# Altium schematic symbol library DS3231.SchLib: 1 symbol
Pins are listed as number, name and electrical type; pins without a type are passive.

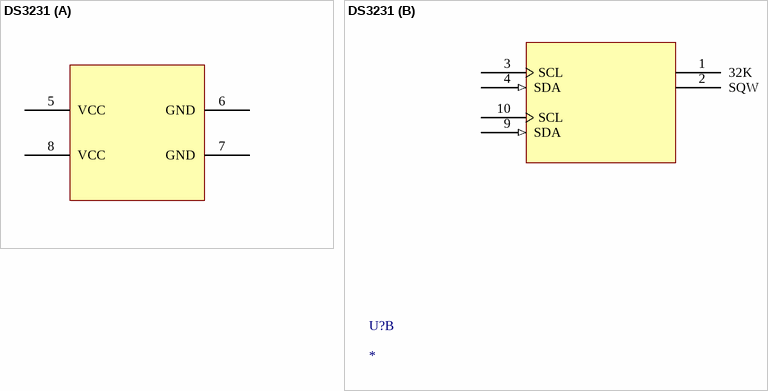
[diagram p0: symbol DS3231]

## DS3231
designator U?
Time Format: HH:MM:SS (12/24 hr); Date Format: YY-MM-DD-dd; Interface: I²C, 2-Wire Serial; Voltage - Supply: 2.3V ~ 5.5V; Current - Timekeeping (Max): 130µA ~ 200µA @ 3.63V ~ 5.5V; Package: Tape & Reel (TR); Type: Clock/Calendar; Features: Alarm, Leap Year, Square Wave Output; Operating Temperature: -40°C ~ 85°C; Mounting Type: Surface Mount; Package / Case: 16-SOIC (0.295", 7.50mm Width); Supplier Device Package: 16-SOIC
footprint PCBComponent_1
footprint PCBComponent_1
part A pins: 5 VCC, 6 GND, 7 GND, 8 VCC
part B pins: 1 32K, 2 SQW, 3 SCL, 4 SDA (in), 9 SDA (in), 10 SCL